# EAGLE library part 2G08 (library ic-TI)
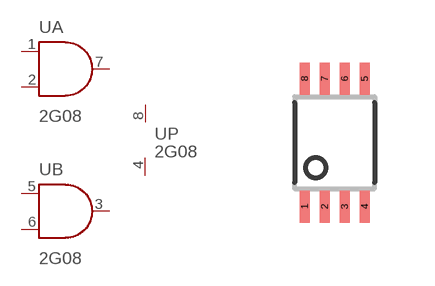
[diagram p34: symbol with the pads of US8; footprint US8]

Designator prefix U; gates A=LOGIC_AND B=LOGIC_AND P=LOGIC_PWR

## 2G08DCU  [US8]
1  A:A
2  A:B
3  B:Y
4  P:GND
5  B:A
6  B:B
7  A:Y
8  P:VCC

## Footprint US8 (pad centres in mm)
smd 0.25 x 0.8: 1 -0.75,-1.6; 2 -0.25,-1.6; 3 0.25,-1.6; 4 0.75,-1.6; 5 0.75,1.6; 6 0.25,1.6; 7 -0.25,1.6; 8 -0.75,1.6